# Altium footprint library LitLib.PcbLib: 7 footprints
Each footprint in its own frame and in the unit in brackets; x right, y up, seen from the top. Pads: shape width x height; smd on the part's side, far side on the other; paste and mask are expansions set on the pad; w line width, h text height; cw(c..) or ccw(c..) is an arc to the next point about the centre after c.
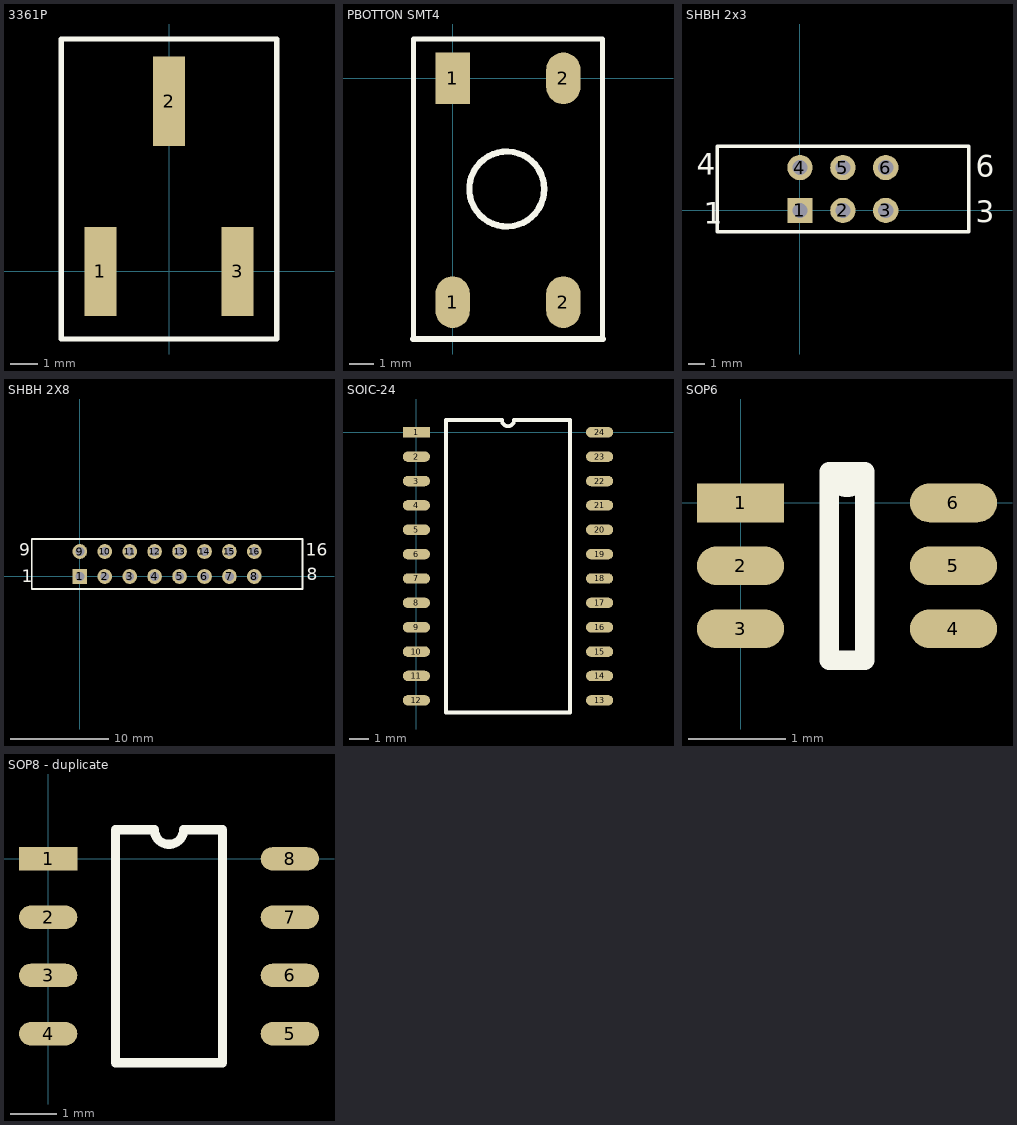
[diagram p0: the footprints below, top view; thin cyan lines are the x and y axes]

## 3361P [mm]
pads (3):
  rect 1.19x3.3 smd: 1(-2.54,0) 2(0,6.3) 3(2.54,0)
Top Overlay:
  lines w0.2: -3.985,-2.5 3.985,-2.5 3.985,8.6 -3.985,8.6 -3.985,0 -3.985,-2.5

## PBOTTON SMT4 [mm]
pads (4):
  oval 1.4x2.1 smd: 1(0,-9.1) 2(4.5,-9.1) 2(4.5,0)
  rect 1.4x2.1 smd: 1(0,0)
Top Overlay:
  circle w0.254: c2.2,-4.5 r1.523
  lines w0.2: -1.6,-10.6 -1.6,1.6 0,1.6 6.1,1.6 6.1,-10.6
  lines w0.254: -1.6,-10.6 6.1,-10.6

## SHBH 2x3 [mm] "Shrouded Box Header: 2x3-Pin, 0.100\" (2.54 mm) Male"
pads (6):
  rect 1.5x1.5 hole 0.9: 1(0,0)
  round 1.5 hole 0.9: 2(2.54,0) 3(5.08,0) 4(0,2.54) 5(2.54,2.54) 6(5.08,2.54)
Top Overlay:
  lines w0.2: -4.9,-1.27 -4.9,3.81 10,3.81 10,-1.27 -4.9,-1.27
  text "4" at -6.1,2.1 h1.27
  text "1" at -5.7,-0.8 h1.27
  text "3" at 10.4,-0.7 h1.27
  text "6" at 10.4,2 h1.27

## SHBH 2X8 [mm] "Shrouded Box Header: 2x8-Pin, 0.100\" (2.54 mm) Male"
pads (16):
  rect 1.5x1.5 hole 0.9: 1(0,0)
  round 1.5 hole 0.9: 2(2.54,0) 3(5.08,0) 4(7.62,0) 5(10.16,0) 6(12.7,0) 7(15.24,0) 8(17.78,0) 9(0,2.54) 10(2.54,2.54) 11(5.08,2.54) 12(7.62,2.54) 13(10.16,2.54) 14(12.7,2.54) 15(15.24,2.54) 16(17.78,2.54)
Top Overlay:
  lines w0.2: -4.9,-1.27 22.7,-1.27 22.7,3.81 -4.9,3.81 -4.9,-1.27
  text "16" at 23,2.1 h1.27
  text "8" at 23.1,-0.4 h1.27
  text "1" at -5.9,-0.6 h1.27
  text "9" at -6.2,2.1 h1.27

## SOIC-24 [mm] "Body 10.6mm x 7.6mm max"
pads (24):
  rect 1.435x0.55 smd: 1(0,0)
  oval 1.435x0.55 smd: 2(0,-1.28) 3(0,-2.56) 4(0,-3.84) 5(0,-5.12) 6(0,-6.4) 7(0,-7.68) 8(0,-8.96) 9(0,-10.24) 10(0,-11.52) 11(0,-12.8) 12(0,-14.08) 13(9.62,-14.08) 14(9.62,-12.8) 15(9.62,-11.52) 16(9.62,-10.24) 17(9.62,-8.96) 18(9.62,-7.68) 19(9.62,-6.4) 20(9.62,-5.12) 21(9.62,-3.84) 22(9.62,-2.56) 23(9.62,-1.28) 24(9.62,0)
Top Overlay:
  lines w0.2: 1.552,-14.72 1.552,0.64 4.49,0.64 ccw(c4.81,0.64) 5.13,0.64 8.068,0.64 8.068,-14.72 1.552,-14.72

## SOP6 [mm]
pads (6):
  rect 0.9x0.4 smd: 1(0,0)
  oval 0.9x0.4 smd: 2(0,-0.65) 3(0,-1.3) 4(2.2,-1.3) 5(2.2,-0.65) 6(2.2,0)
Top Overlay:
  lines w0.2: 0.915,-1.625 1.285,-1.625 1.285,0.325 0.938,0.325 ccw(c1.1,0.325) 1.262,0.325 0.915,0.325 0.915,-1.625

## SOP8 - duplicate [mm]
pads (8):
  rect 1.27x0.51 smd: 1(0,0)
  oval 1.27x0.51 smd: 2(0,-1.27) 3(0,-2.54) 4(0,-3.81) 5(5.27,-3.81) 6(5.27,-2.54) 7(5.27,-1.27) 8(5.27,0)
Top Overlay:
  lines w0.2: 1.47,-4.445 1.47,0.635 2.317,0.635 ccw(c2.635,0.635) 2.952,0.635 3.8,0.635 3.8,-4.445 1.47,-4.445